# EAGLE library part MAX976 (library maxim-comparators_rev_1)
MAX976 - Dual Comparator - created by Mario Blunk - electronics & IT engineering at www.train-z.de
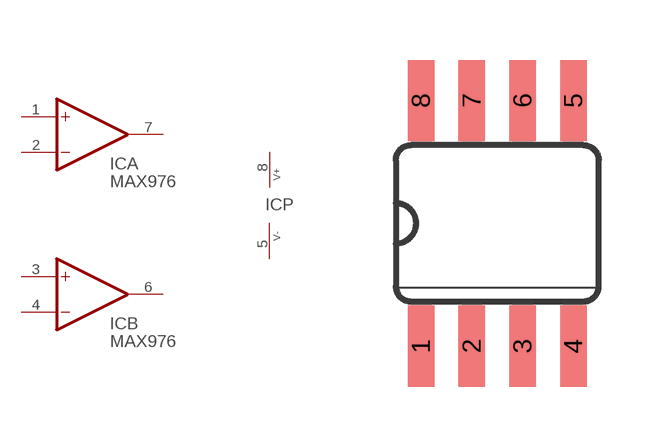
[diagram p1: symbol with the pads of SO08; footprint SO08]

Designator prefix IC; gates A=OP B=OP P=PWR+-

## MAX976  [SO08]
1  A:+IN  in
2  A:-IN  in
3  B:+IN  in
4  B:-IN  in
5  P:V-  pwr
6  B:OUT  out
7  A:OUT  out
8  P:V+  pwr

## Footprint SO08 (pad centres in mm)
Small Outline Package SOIC 150 mil
smd 0.66 x 2.032: 1 -1.905,-3.073; 2 -0.635,-3.073; 3 0.635,-3.073; 4 1.905,-3.073; 5 1.905,3.073; 6 0.635,3.073; 7 -0.635,3.073; 8 -1.905,3.073